# EAGLE library part MP2162 (library Domino)
2A, 6V, 1.5MHz Synchronous Step-Down Switcher
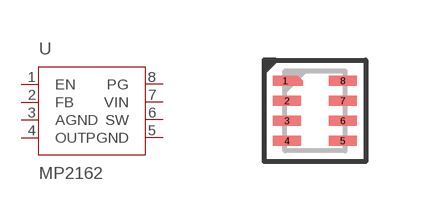
[diagram p10: symbol with the pads of QFN-8_2X1.5; footprint QFN-8_2X1.5]

Designator prefix U

## MP2162GQH  [QFN-8_2X1.5]
1  EN  in
2  FB  pas
3  AGND  pwr
4  OUT  pas
5  PGND  pwr
6  SW  pas
7  VIN  pwr
8  PG  oc

## Footprint QFN-8_2X1.5 (pad centres in mm)
Quad Flat No-lead Package (QFN), 8 Pins, 2 x 1.5 mm Body
smd 0.6 x 0.25: 1 -0.75,0.75
smd 0.7 x 0.25: 2 -0.7,0.25; 3 -0.7,-0.25; 4 -0.7,-0.75; 5 0.7,-0.75; 6 0.7,-0.25; 7 0.7,0.25; 8 0.7,0.75